# Altium footprint library FF_pcb_lib.PcbLib: 102 footprints (part 6 of 7)
Each footprint in its own frame and in the unit in brackets; x right, y up, seen from the top. Pads: shape width x height; smd on the part's side, far side on the other; paste and mask are expansions set on the pad; w line width, h text height; cw(c..) or ccw(c..) is an arc to the next point about the centre after c.
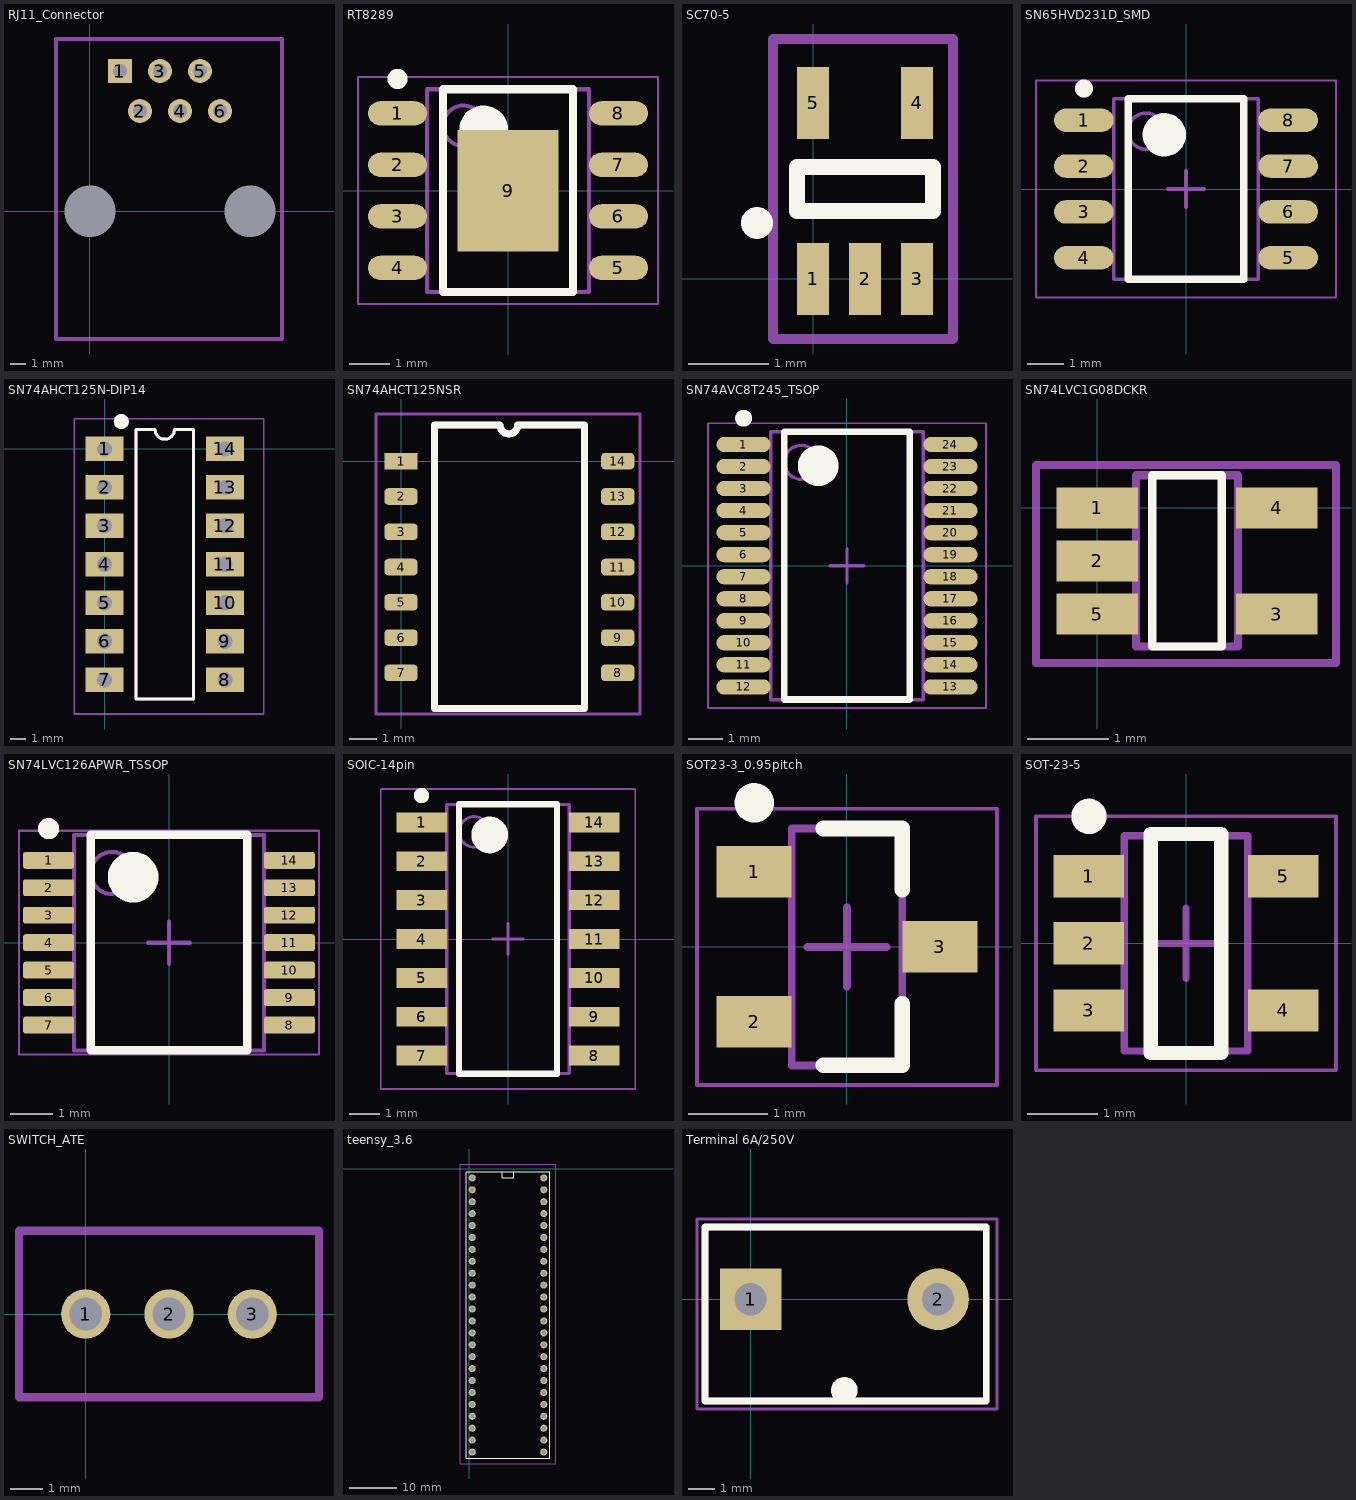
[diagram p5: the footprints below, top view; thin cyan lines are the x and y axes]

## RJ11_Connector [mil]
pads (8):
  rect 60x60 hole 35.04: 1(75,350)
  round 60 hole 35.04: 2(125,250) 3(175,350) 4(225,250) 5(275,350) 6(325,250)
  round 60 hole 127.95 unplated: ""(0,0) ""(400,0)
Mechanical 15:
  lines w10: -85,0 -85,430 480,430 480,-318.9 -85,-318.9 -85,5
3D body "A-2004-1-4-LP-N-R--3DModel-STEP-56544.STEP": height 460.63, standoff -127.95, extent -58.07,-310.04 461.61,398.62

## RT8289 [mm] "DCDC Vin 32max"
height 1.76
pads (9):
  oval 1.45x0.6 smd: 1(-2.725,1.905) 2(-2.725,0.635) 3(-2.725,-0.635) 4(-2.725,-1.905) 5(2.725,-1.905) 6(2.725,-0.635) 7(2.725,0.635) 8(2.725,1.905)
  rect 2.5x3 smd: 9(0,0)
Top Overlay:
  circle w0.6: c-0.6,1.5 r0.3
  circle w0.25: c-2.725,2.755 r0.125
  lines w0.2: -1.6,-2.5 1.6,-2.5 1.6,2.5 -1.6,2.5 -1.6,-2.5
Mechanical 13:
  circle w0.1: c-1.1,1.6 r0.5
  lines w0.1: -2,-2.5 2,-2.5 2,2.5 -2,2.5 -2,-2.5
Mechanical 15:
  lines w0.05: -3.7,-2.8 3.7,-2.8 3.7,2.8 -3.7,2.8 -3.7,-2.8
  lines w0.1: -0.5,0 0.5,0 ; 0,-0.5 0,0.5
3D body: height 1.76, standoff 0, extent -2,-2.5 2,2.5

## SC70-5 [mm] "SC70-5pin"
pads (6):
  rect 0.4x0.9 smd: 1(0,0) 2(0.65,0) 3(1.3,0) 4(1.3,2.2) 5(0,2.2)
  round 0.4 on Top Overlay: ""(-0.7,0.7)
Top Overlay:
  lines w0.203: -0.2,0.85 -0.2,1.4 1.5,1.4 1.5,0.85 -0.2,0.85
Courtyard:
  lines w0.127: -0.5,-0.75 1.75,-0.75 1.75,3 -0.5,3 -0.5,-0.75
3D body: height 0.7, standoff 0, extent -0.2,0.225 1.5,1.95

## SN65HVD231D_SMD [mm]
height 1.75
pads (8):
  oval 1.65x0.65 smd: 1(-2.825,1.905) 2(-2.825,0.635) 3(-2.825,-0.635) 4(-2.825,-1.905) 5(2.825,-1.905) 6(2.825,-0.635) 7(2.825,0.635) 8(2.825,1.905)
Top Overlay:
  circle w0.6: c-0.6,1.5 r0.3
  circle w0.25: c-2.825,2.78 r0.125
  lines w0.2: -1.6,-2.5 1.6,-2.5 1.6,2.5 -1.6,2.5 -1.6,-2.5
Mechanical 13:
  circle w0.1: c-1.1,1.6 r0.5
  lines w0.1: -2,-2.5 2,-2.5 2,2.5 -2,2.5 -2,-2.5
Mechanical 15:
  lines w0.05: -4.15,-3 4.15,-3 4.15,3 -4.15,3 -4.15,-3
  lines w0.1: -0.5,0 0.5,0 ; 0,-0.5 0,0.5
3D body "SOIC8-150-50.STEP": height 1.91, standoff 0, extent -3,-2.45 3,2.45

## SN74AHCT125N-DIP14 [mm]
pads (16):
  rect 2.5x1.6 hole 1: 1(0,0) 2(0,-2.54) 3(0,-5.08) 4(0,-7.62) 5(0,-10.16) 6(0,-12.7) 7(0,-15.24) 8(7.94,-15.24) 9(7.94,-12.7) 10(7.94,-10.16) 11(7.94,-7.62) 12(7.94,-5.08) 13(7.94,-2.54) 14(7.94,0)
  round 1 on Top Overlay: ""(1.1,1.8)
  round 1 on Mech13: ""(1.1,1.8)
Top Overlay:
  lines w0.2: 2.085,-16.51 5.855,-16.51 5.855,1.27 4.605,1.27 cw(c3.97,1.27) 3.335,1.27 2.085,1.27 2.085,-16.51
Mechanical 13:
  lines w0.2: 2.085,-16.51 2.085,1.27 3.335,1.27 ccw(c3.97,1.27) 4.605,1.27 5.855,1.27 5.855,-16.51 2.085,-16.51
  text "'.Designator'" at 2.6,-7 h0.7
Mechanical 15:
  lines w0.1: -2,-17.5 10.5,-17.5 10.5,2 -2,2 -2,-17.5
3D body: height 5.08, standoff 0.51, extent 1.5,-16.4 6.4,1.1

## SN74AHCT125NSR [mm]
pads (14):
  rect 1.2x0.6 smd: 1(0,0)
  rrect50% 1.2x0.6 smd: 2(0,-1.27) 3(0,-2.54) 4(0,-3.81) 5(0,-5.08) 6(0,-6.35) 7(0,-7.62) 8(7.8,-7.62) 9(7.8,-6.35) 10(7.8,-5.08) 11(7.8,-3.81) 12(7.8,-2.54) 13(7.8,-1.27) 14(7.8,0)
Top Overlay:
  lines w0.254: 1.2,-8.9 3.9,-8.9 6.6,-8.9 6.6,1.3 4.2,1.3 cw(c3.882,1.3) 3.565,1.3 1.2,1.3 1.2,-8.9
Mechanical 13:
  lines w0.254: 1.2,-8.9 1.2,1.3 3.565,1.3 ccw(c3.882,1.3) 4.2,1.3 6.6,1.3 6.6,-8.9 3.9,-8.9 1.2,-8.9
  text "'.Designator'" at 2.2,-3.7 h0.7
Mechanical 15:
  lines w0.1: -0.9,-9.1 8.6,-9.1 8.6,1.7 -0.8,1.7 -0.9,1.7 -0.9,-9.1
3D body: height 2, standoff 0.1, extent 1.3,-8.8 6.5,1.2

## SN74AVC8T245_TSOP [mm] "TSOP, 24-Leads, Body 7,80x4,40mm, Pitch 0,65mm, IPC Medium Density"
height 1.2
pads (24):
  oval 1.6x0.45 smd mask+0.05: 1(-3.05,3.575) 2(-3.05,2.925) 3(-3.05,2.275) 4(-3.05,1.625) 5(-3.05,0.975) 6(-3.05,0.325) 7(-3.05,-0.325) 8(-3.05,-0.975) 9(-3.05,-1.625) 10(-3.05,-2.275) 11(-3.05,-2.925) 12(-3.05,-3.575) 13(3.05,-3.575) 14(3.05,-2.925) 15(3.05,-2.275) 16(3.05,-1.625) 17(3.05,-0.975) 18(3.05,-0.325) 19(3.05,0.325) 20(3.05,0.975) 21(3.05,1.625) 22(3.05,2.275) 23(3.05,2.925) 24(3.05,3.575)
Top Overlay:
  circle w0.6: c-0.85,2.95 r0.3
  circle w0.25: c-3.05,4.35 r0.125
  lines w0.2: -1.85,-3.95 1.85,-3.95 1.85,3.95 -1.85,3.95 -1.85,-3.95
Mechanical 13:
  circle w0.1: c-1.35,3.05 r0.5
  lines w0.1: -2.25,-3.95 2.25,-3.95 2.25,3.95 -2.25,3.95 -2.25,-3.95
Mechanical 15:
  lines w0.05: -4.1,-4.2 4.1,-4.2 4.1,4.2 -4.1,4.2 -4.1,-4.2
  lines w0.1: -0.5,0 0.5,0 ; 0,-0.5 0,0.5
3D body: height 1.2, standoff 0.05, extent -2.25,-3.95 2.25,3.95

## SN74LVC1G08DCKR [mm]
pads (5):
  rect 1x0.5 smd mask+0.05: 1(0,0) 2(0,-0.65) 3(2.2,-1.3) 4(2.2,0) 5(0,-1.3)
Top Overlay:
  lines w0.1: 0.675,-1.7 1.1,-1.7 1.525,-1.7 1.525,0.4 0.675,0.4 0.675,-1.7
Mechanical 13:
  lines w0.1: 0.475,-1.7 0.475,0.4 1.725,0.4 1.725,-1.7 1.1,-1.7 0.475,-1.7
Mechanical 15:
  lines w0.1: -0.75,-1.9 2.925,-1.9 2.925,0.525 -0.625,0.525 -0.75,0.525 -0.75,-1.9
3D body: height 1, standoff 0.1, extent 0.525,-1.65 1.675,0.35

## SN74LVC126APWR_TSSOP [mm]
pads (14):
  rrect25% 1.2x0.4 smd mask+0.05: 1(-2.85,1.95) 2(-2.85,1.3) 3(-2.85,0.65) 4(-2.85,0) 5(-2.85,-0.65) 6(-2.85,-1.3) 7(-2.85,-1.95) 8(2.85,-1.95) 9(2.85,-1.3) 10(2.85,-0.65) 11(2.85,0) 12(2.85,0.65) 13(2.85,1.3) 14(2.85,1.95)
Top Overlay:
  circle w0.25: c-2.85,2.7 r0.125
  circle w0.6: c-0.85,1.55 r0.3
  lines w0.2: -1.85,-2.55 -1.85,2.55 1.85,2.55 1.85,-2.55 -1.85,-2.55
Mechanical 13:
  circle w0.1: c-1.35,1.65 r0.5
  lines w0.1: -2.25,-2.55 -2.25,2.55 2.25,2.55 2.25,-2.55 -2.25,-2.55
Mechanical 15:
  lines w0.05: -3.55,-2.65 -3.55,2.65 3.55,2.65 3.55,-2.65 -3.55,-2.65
  lines w0.1: -0.5,0 0.5,0 ; 0,-0.5 0,0.5
3D body "PW0014AakaMTC14.stp": height 1, standoff 0, extent -3.21,-2.5 3.21,2.5

## SOIC-14pin [mm]
height 1.75
pads (14):
  rect 1.65x0.65 smd: 1(-2.825,3.81) 2(-2.825,2.54) 3(-2.825,1.27) 4(-2.825,0) 5(-2.825,-1.27) 6(-2.825,-2.54) 7(-2.825,-3.81) 8(2.825,-3.81) 9(2.825,-2.54) 10(2.825,-1.27) 11(2.825,0) 12(2.825,1.27) 13(2.825,2.54) 14(2.825,3.81)
Top Overlay:
  circle w0.6: c-0.6,3.4 r0.3
  circle w0.25: c-2.825,4.685 r0.125
  lines w0.2: -1.6,-4.4 1.6,-4.4 1.6,4.4 -1.6,4.4 -1.6,-4.4
Top Assembly:
  circle w0.1: c-1.1,3.5 r0.5
  lines w0.1: -2,-4.4 2,-4.4 2,4.4 -2,4.4 -2,-4.4
Top Courtyard:
  lines w0.05: -4.15,-4.9 4.15,-4.9 4.15,4.9 -4.15,4.9 -4.15,-4.9
  lines w0.1: -0.5,0 0.5,0 ; 0,-0.5 0,0.5
3D body: height 1.75, standoff 0.1, extent -2,-4.4 2,4.4

## SOT23-3_0.95pitch [mm] "SOT23, 3-Leads, Body 2,90x2,35mm, Pitch 0,95mm, IPC Medium Density"
height 1.1
pads (3):
  rect 0.95x0.65 smd: 1(-1.175,0.95) 2(-1.175,-0.95) 3(1.175,0)
Top Overlay:
  circle w0.25: c-1.175,1.825 r0.125
  lines w0.2: -0.3,-1.5 0.7,-1.5 0.7,-0.725 ; -0.3,1.5 0.7,1.5 0.7,0.725
Top Assembly:
  lines w0.1: -0.7,-1.5 0.7,-1.5 0.7,1.5 -0.7,1.5 -0.7,-1.5
Top Courtyard:
  lines w0.05: -1.9,-1.75 1.9,-1.75 1.9,1.75 -1.9,1.75 -1.9,-1.75
  lines w0.1: -0.5,0 0.5,0 ; 0,-0.5 0,0.5
3D body: height 1.1, standoff 0.05, extent -0.7,-1.5 0.7,1.5

## SOT-23-5 [mm] "0.95 pitch"
height 1
pads (5):
  rect 1x0.6 smd: 1(-1.375,0.95) 2(-1.375,0) 3(-1.375,-0.95) 4(1.375,-0.95) 5(1.375,0.95)
Top Overlay:
  circle w0.25: c-1.375,1.8 r0.125
  lines w0.2: -0.5,-1.55 -0.5,1.55 0.5,1.55 0.5,-1.55 -0.5,-1.55
Top Assembly:
  lines w0.1: -0.875,-1.525 0.875,-1.525 0.875,1.525 -0.875,1.525 -0.875,-1.525
Top Courtyard:
  lines w0.05: -2.125,-1.8 2.125,-1.8 2.125,1.8 -2.125,1.8 -2.125,-1.8
  lines w0.1: -0.5,0 0.5,0 ; 0,-0.5 0,0.5
3D body: height 1, standoff 0.1, extent -0.875,-1.525 0.875,1.525

## STLM20W87F_323-5L [mm]

## SWITCH_ATE [mm] "ATE1D-2M3-10-Z"
pads (3):
  round 1.5 hole 1: 1(0,0) 2(2.54,0) 3(5.08,0)
Courtyard:
  lines w0.254: -2.032,-2.54 -2.032,2.54 7.112,2.54 7.112,-2.54 -2.032,-2.54
3D body: height 8.34, standoff 0, extent -1.778,-2.286 6.858,2.286

## teensy_3.6 [mm]
pads (48):
  round 1.5 hole 1.016: 0(0.635,-4.445) 1(0.635,-6.985) 2(0.635,-9.525) 3(0.635,-12.065) 4(0.635,-14.605) 5(0.635,-17.145) 6(0.635,-19.685) 7(0.635,-22.225) 8(0.635,-24.765) 9(0.635,-27.305) 10(0.635,-29.845) 11(0.635,-32.385) 12(0.635,-34.925) 13(15.875,-34.925) 14(15.875,-32.385) 15(15.875,-29.845) 16(15.875,-27.305) 17(15.875,-24.765) 18(15.875,-22.225) 19(15.875,-19.685) 20(15.875,-17.145) 21(15.875,-14.605) 22(15.875,-12.065) 23(15.875,-9.525) 24(0.635,-40.005) 25(0.635,-42.545) 26(0.635,-45.085) 27(0.635,-47.625) 28(0.635,-50.165) 29(0.635,-52.705) 30(0.635,-55.245) 31(0.635,-57.785) 32(0.635,-60.325) 33(15.875,-60.325) 34(15.875,-57.785) 35(15.875,-55.245) 36(15.875,-52.705) 37(15.875,-50.165) 38(15.875,-47.625) 39(15.875,-45.085) +3V3(0.635,-37.465) +3V3(15.875,-6.985) A21(15.875,-42.545) A22(15.875,-40.005) AGND(15.875,-4.445) GND(0.635,-1.905) GND(15.875,-37.465) VIN(15.875,-1.905)
Top Overlay:
  lines w0.2: 6.985,-0.635 6.985,-1.905 9.525,-1.905 9.525,-0.635 ; -0.635,-61.595 -0.635,-0.635 17.145,-0.635 17.145,-61.595 -0.635,-61.595
Board:
  lines w0.254: -1.905,-62.865 -1.905,1.05 18.415,1.05 18.415,-62.865 -1.905,-62.865
3D body "Teensy 3.5 - 3.6.step": height 7.49, standoff -5.65, extent -0.615,-61.66 17.165,0.7

## Terminal 6A/250V [mm]
pads (3):
  rect 2.3x2.3 hole 1.2: 1(0,0)
  round 2.3 hole 1.2: 2(7,0)
  round 1 on Top Overlay: ""(3.5,-3.4)
Top Overlay:
  lines w0.254: -1.7,-3.8 -1.7,2.7 8.8,2.7 8.8,0 8.8,-3.8 -1.7,-3.8
Mechanical 13:
  lines w0.254: -1.7,-3.8 8.8,-3.8 8.8,0 8.8,2.7 -1.7,2.7 -1.7,-3.8
  text "'.Designator'" at -0.4,-2.5 h0.7
Mechanical 15:
  lines w0.1: -2,-4.1 -2,3 9.2,3 9.2,-4.1 -2,-4.1
3D body: height 8.2, standoff 0.1, extent -1.6,-3.7 8.8,2.5